# Altium footprint library PCB - CONNECTOR - CUI - CUI SJ-43515RS-SMT-TR.PcbLib: 1 footprints
Each footprint in its own frame and in the unit in brackets; x right, y up, seen from the top. Pads: shape width x height; smd on the part's side, far side on the other; paste and mask are expansions set on the pad; w line width, h text height; cw(c..) or ccw(c..) is an arc to the next point about the centre after c.
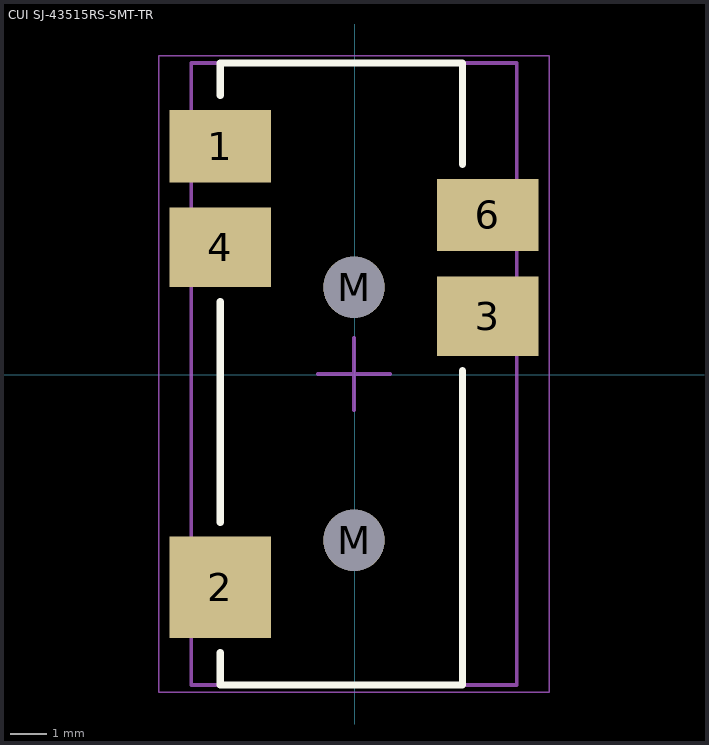
[diagram p0: the footprint, top view; thin cyan lines are the x and y axes]

## CUI SJ-43515RS-SMT-TR [mm] "3.50mm (0.141\", 1/8\", Mini Plug) - Headphone Phone Jack Stereo (4 Conductor, TRRS) Connector Solder"
height 5
pads (7):
  rect 2.8x2 smd: 1(-3.717,6.321) 6(3.683,4.421)
  rect 2.8x2.8 smd: 2(-3.717,-5.879)
  rect 2.8x2.2 smd: 3(3.683,1.621) 4(-3.717,3.521)
  round 1.7 hole 1.7 unplated: M(-0.017,-4.579) M(-0.017,2.421)
Top Overlay:
  lines w0.2: -3.717,-7.679 -3.717,-8.579 2.983,-8.579 2.983,0.121 ; -3.717,-4.079 -3.717,2.021 ; -3.717,7.721 -3.717,8.621 2.983,8.621 2.983,5.821
Mechanical 13:
  circle w0.1: c-3.717,6.321 r0.721
  circle w0.1: c-3.717,6.321 r0.762
  lines w0.1: -4.517,-8.579 -4.517,8.621 4.483,8.621 4.483,-8.579 -4.517,-8.579
Mechanical 15:
  lines w0.05: -5.417,-8.779 -5.417,8.821 5.383,8.821 5.383,-8.779 -5.417,-8.779
  lines w0.1: -1.017,0.021 -0.017,0.021 ; -0.017,-0.979 -0.017,0.021 ; -0.017,1.021 -0.017,0.021 ; 0.983,0.021 -0.017,0.021
3D body "CUI - SJ-43515-SMT-TR.step": height 5, standoff -0.8, extent -4.517,-8.579 4.483,8.621